# Altium schematic symbol library Schematic-Lib-ABahlmann-MISC.SchLib: 41 symbols
Pins are listed as number, name and electrical type; pins without a type are passive.

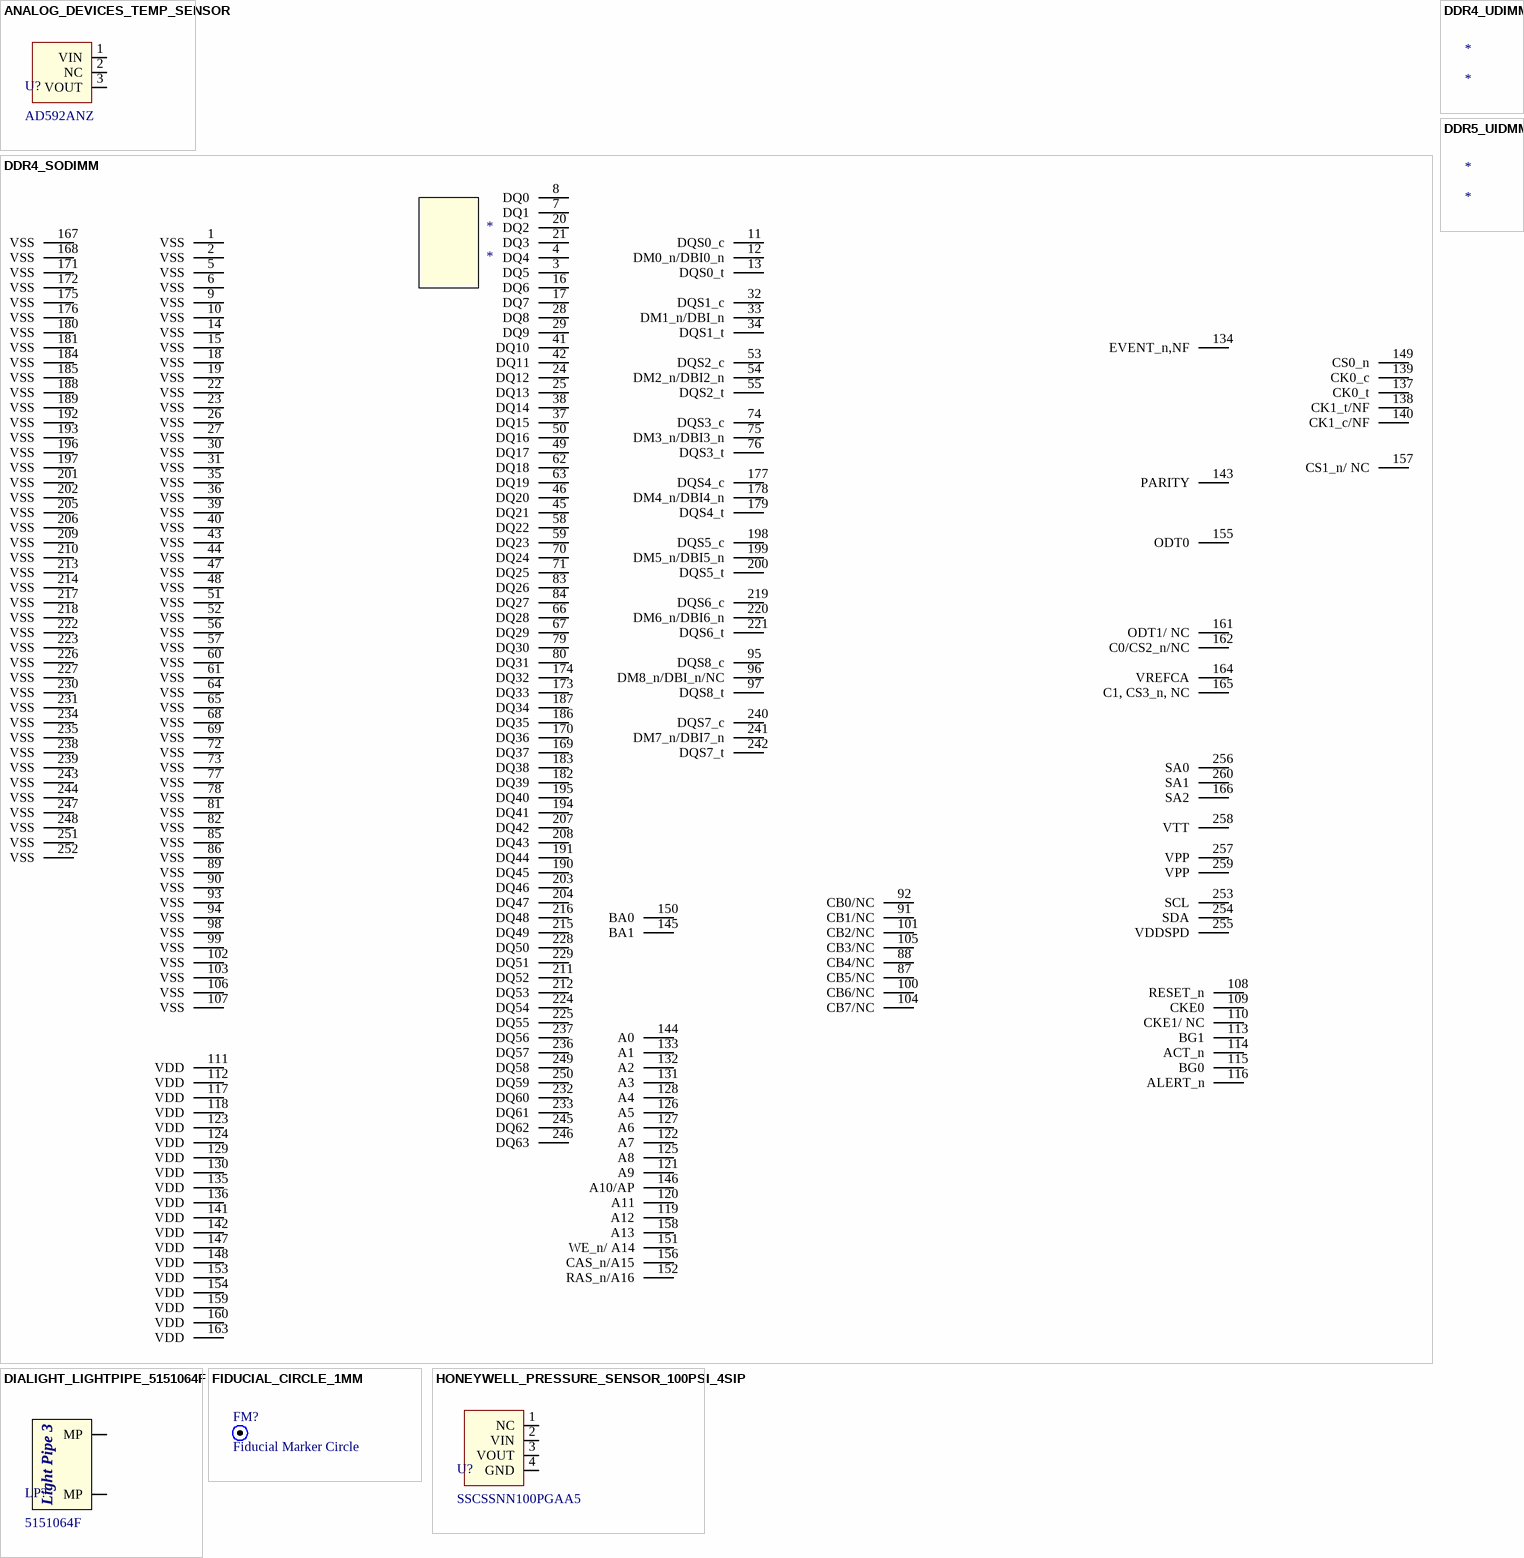
[diagram p0: symbols ANALOG_DEVICES_TEMP_SENSOR to HONEYWELL_PRESSURE_SENSOR_100PSI_4SIP]

## ANALOG_DEVICES_TEMP_SENSOR
designator U?, comment AD592ANZ  (no BOM)
Temperature Sensor Analog, Local -25°C ~ 105°C TO-92-3 (NO BOM)
footprint AD592ANZ
pins: 1 VIN, 2 NC, 3 VOUT

## DDR4_SODIMM
designator *  (no BOM)
ComponentLink1Description: DDR4_SODIMM; ComponentLink1URL: https://www.mouser.ca/new/apacer/apacer-ddr4-3200-industrial-memory/; ComponentLink2Description: New link; ComponentLink2URL: https://www.farnell.com/datasheets/3542655.pdf
footprint DDR4_SODIMM
pins: 1 VSS, 2 VSS, 3 DQ5, 4 DQ4, 5 VSS, 6 VSS, 7 DQ1, 8 DQ0, 9 VSS, 10 VSS, 11 DQS0_c, 12 DM0_n/DBI0_n, 13 DQS0_t, 14 VSS, 15 VSS, 16 DQ6, 17 DQ7, 18 VSS, 19 VSS, 20 DQ2, 21 DQ3, 22 VSS, 23 VSS, 24 DQ12, 25 DQ13, 26 VSS, 27 VSS, 28 DQ8, 29 DQ9, 30 VSS, 31 VSS, 32 DQS1_c, 33 DM1_n/DBI_n, 34 DQS1_t, 35 VSS, 36 VSS, 37 DQ15, 38 DQ14, 39 VSS, 40 VSS, 41 DQ10, 42 DQ11, 43 VSS, 44 VSS, 45 DQ21, 46 DQ20, 47 VSS, 48 VSS, 49 DQ17, 50 DQ16, 51 VSS, 52 VSS, 53 DQS2_c, 54 DM2_n/DBI2_n, 55 DQS2_t, 56 VSS, 57 VSS, 58 DQ22, 59 DQ23, 60 VSS, 61 VSS, 62 DQ18, 63 DQ19, 64 VSS, 65 VSS, 66 DQ28, 67 DQ29, 68 VSS, 69 VSS, 70 DQ24, 71 DQ25, 72 VSS, 73 VSS, 74 DQS3_c, 75 DM3_n/DBI3_n, 76 DQS3_t, 77 VSS, 78 VSS, 79 DQ30, 80 DQ31, 81 VSS, 82 VSS, 83 DQ26, 84 DQ27, 85 VSS, 86 VSS, 87 CB5/NC, 88 CB4/NC, 89 VSS, 90 VSS, 91 CB1/NC, 92 CB0/NC, 93 VSS, 94 VSS, 95 DQS8_c, 96 DM8_n/DBI_n/NC, 97 DQS8_t, 98 VSS, 99 VSS, 100 CB6/NC, 101 CB2/NC, 102 VSS, 103 VSS, 104 CB7/NC, 105 CB3/NC, 106 VSS, 107 VSS, 108 RESET_n, 109 CKE0, 110 CKE1/ NC, 111 VDD, 112 VDD, 113 BG1, 114 ACT_n, 115 BG0, 116 ALERT_n, 117 VDD, 118 VDD, 119 A12, 120 A11, 121 A9, 122 A7, 123 VDD, 124 VDD, 125 A8, 126 A5, 127 A6, 128 A4, 129 VDD, 130 VDD, 131 A3, 132 A2, 133 A1, 134 EVENT_n,NF, 135 VDD, 136 VDD, 137 CK0_t, 138 CK1_t/NF, 139 CK0_c, 140 CK1_c/NF, 141 VDD, 142 VDD, 143 PARITY, 144 A0, 145 BA1, 146 A10/AP, 147 VDD, 148 VDD, 149 CS0_n, 150 BA0, 151 WE_n/ A14, 152 RAS_n/A16, 153 VDD, 154 VDD, 155 ODT0, 156 CAS_n/A15, 157 CS1_n/ NC, 158 A13, 159 VDD, 160 VDD, 161 ODT1/ NC, 162 C0/CS2_n/NC, 163 VDD, 164 VREFCA, 165 C1, CS3_n, NC, 166 SA2, 167 VSS, 168 VSS, 169 DQ37, 170 DQ36, 171 VSS, 172 VSS, 173 DQ33, 174 DQ32, 175 VSS, 176 VSS, 177 DQS4_c, 178 DM4_n/DBI4_n, 179 DQS4_t, 180 VSS, 181 VSS, 182 DQ39, 183 DQ38, 184 VSS, 185 VSS, 186 DQ35, 187 DQ34, 188 VSS, 189 VSS, 190 DQ45, 191 DQ44, 192 VSS, 193 VSS, 194 DQ41, 195 DQ40, 196 VSS, 197 VSS, 198 DQS5_c, 199 DM5_n/DBI5_n, 200 DQS5_t, 201 VSS, 202 VSS, 203 DQ46, 204 DQ47, 205 VSS, 206 VSS, 207 DQ42, 208 DQ43, 209 VSS, 210 VSS, 211 DQ52, 212 DQ53, 213 VSS, 214 VSS, 215 DQ49, 216 DQ48, 217 VSS, 218 VSS, 219 DQS6_c, 220 DM6_n/DBI6_n, 221 DQS6_t, 222 VSS, 223 VSS, 224 DQ54, 225 DQ55, 226 VSS, 227 VSS, 228 DQ50, 229 DQ51, 230 VSS, 231 VSS, 232 DQ60, 233 DQ61, 234 VSS, 235 VSS, 236 DQ57, 237 DQ56, 238 VSS, 239 VSS, 240 DQS7_c, 241 DM7_n/DBI7_n, 242 DQS7_t, 243 VSS, 244 VSS, 245 DQ62, 246 DQ63, 247 VSS, 248 VSS, 249 DQ58, 250 DQ59, 251 VSS, 252 VSS, 253 SCL, 254 SDA, 255 VDDSPD, 256 SA0, 257 VPP, 258 VTT, 259 VPP, 260 SA1

## DDR4_UDIMM
designator *  (no BOM)
ComponentLink1Description: DDR4_UDIMM; ComponentLink1URL: https://www.mouser.com/datasheet/2/671/mict_s_a0003077621_1-2290867.pdf
footprint DDR4_UDIMM

## DDR5_UIDMM
designator *  (no BOM)
ComponentLink1Description: DDR5_UIDMM; ComponentLink1URL: https://www.positivoempresas.com.br/wp-content/uploads/2024/11/3.-MEMORIA-DDR5.pdf; ComponentLink2Description: Kingston Mouser; ComponentLink2URL: https://www.mouser.ca/new/kingston/kingston-fury-beast-ddr5-memory-modules/
footprint DDR5_UDIMM

## DIALIGHT_LIGHTPIPE_5151064F
designator LP?, comment 5151064F  (no BOM)
Light Pipe 3 High Clear Rigid Board Mount, Press Fit, Right Angle; ComponentLink1Description: Digikey; ComponentLink1URL: https://www.digikey.ca/en/products/detail/dialight/5151064F/1769783; ComponentLink2Description: Datasheet; ComponentLink2URL: https://s3-us-west-2.amazonaws.com/catsy.557/C17574.pdf
footprint DIALIGHT_LIGHTPIPE_5151064F (Light Pipe 3 High Clear Rigid Board Mount, Press Fit, Right Angle)
pins: MP (power), MP (power)
text: Light Pipe 3

## FIDUCIAL_CIRCLE_1MM
designator FM?, comment Fiducial Marker Circle  (no BOM)
Fiducial Marker Circle 1mm NOBOM; ComponentLink1Description: Fiducical Link; ComponentLink1URL: https://www.solutionsmfg.com/images/pdf/fiducial.pdf
footprint FIDUCIAL_CIRCLE_1MMX2MM
footprint FIDUCIAL_CIRCLE_1MMX3MM

## HONEYWELL_PRESSURE_SENSOR_100PSI_4SIP
designator U?, comment SSCSSNN100PGAA5  (no BOM)
Pressure Sensor 100PSI (689.48kPa) Vented Gauge 0.5 V ~ 4.5 V 4-SIP Module (NO BOM); ComponentLink1Description: Digikey; ComponentLink1URL: https://www.digikey.ca/en/products/detail/honeywell-sensing-and-productivity-solutions/SSCSSNN100PGAA5/2270214; ComponentLink2Description: Datasheet; ComponentLink2URL: https://mm.digikey.com/Volume0/opasdata/d220001/medias/docus/2157/ssc_series_DS.pdf
footprint SSCSSNN100PGAA5
pins: 1 NC, 2 VIN, 3 VOUT, 4 GND

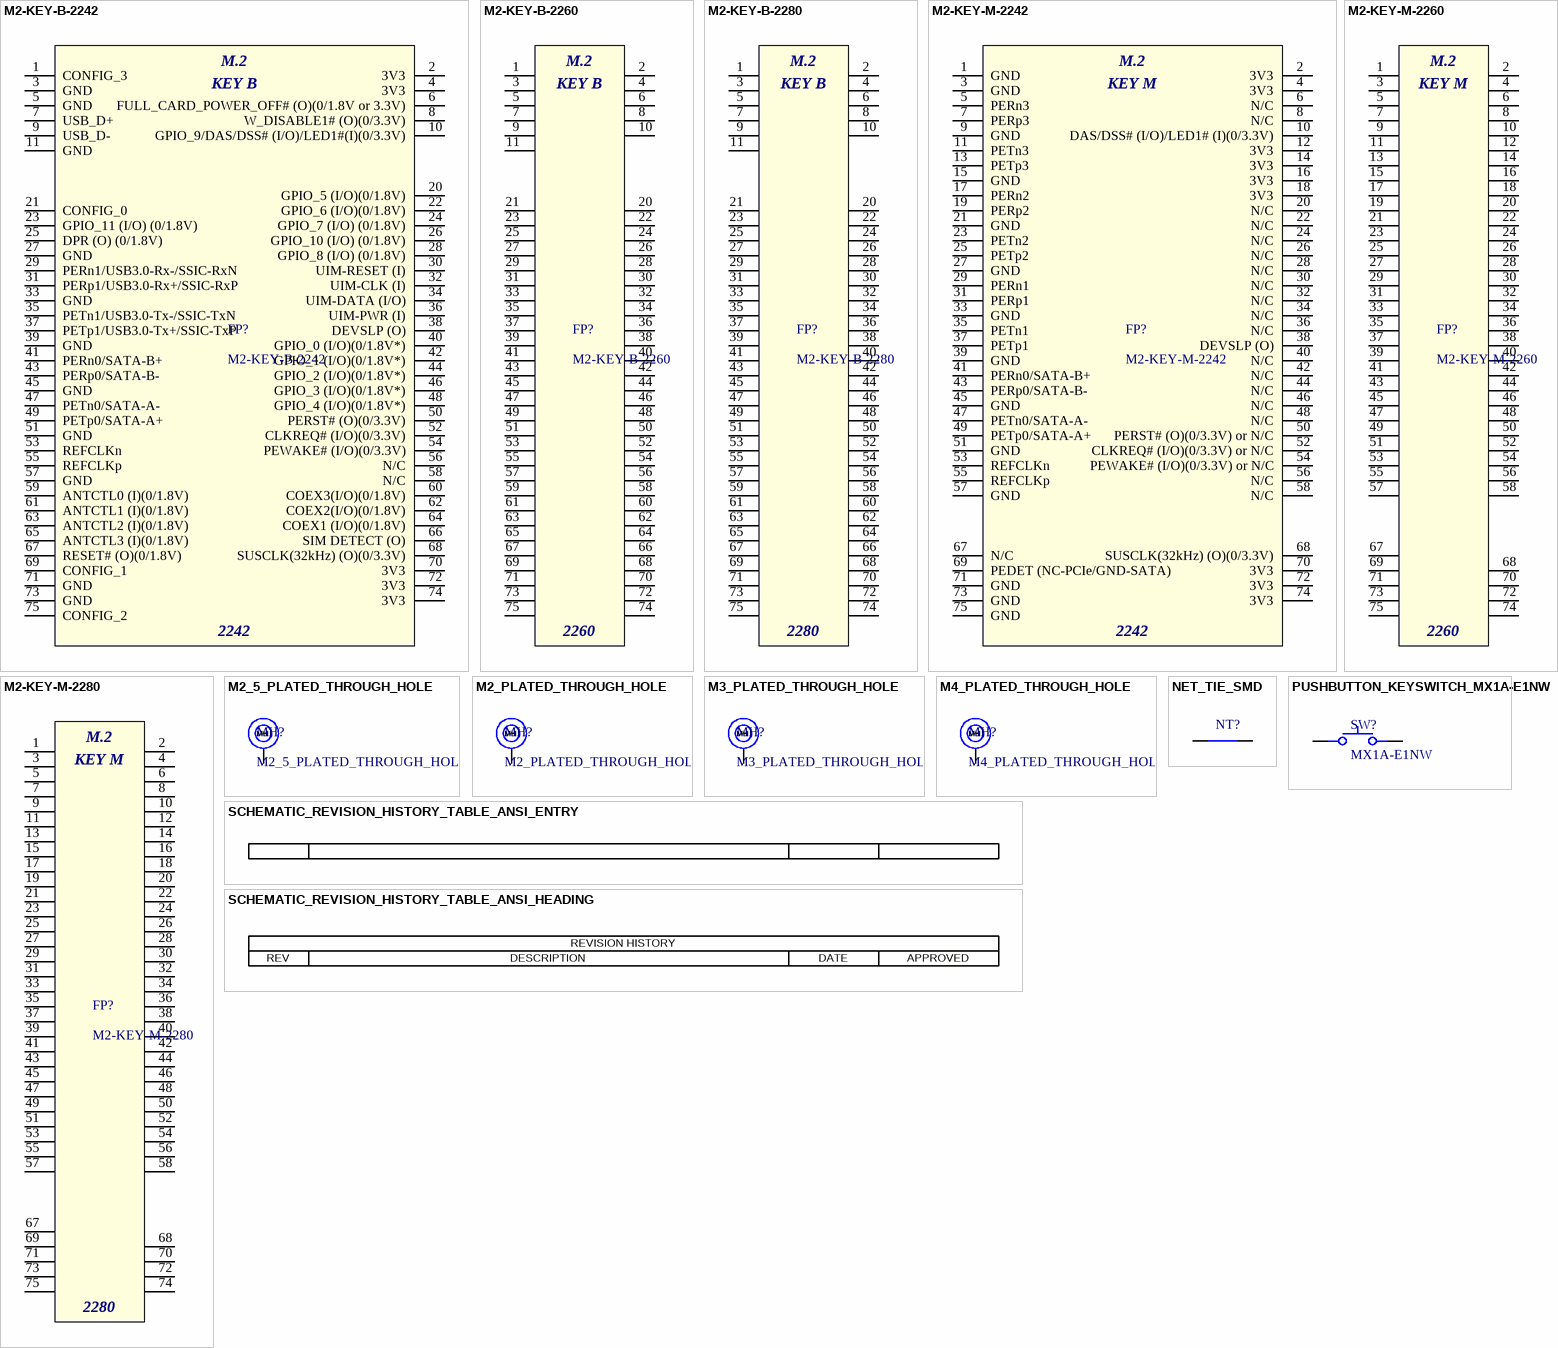
[diagram p1: symbols M2-KEY-B-2242 to SCHEMATIC_REVISION_HISTORY_TABLE_ANSI_HEADING]

## M2-KEY-B-2242
designator FP?  (no BOM)
M.2 Key B 22mm x 42mm Footprint Outline; ComponentLink1Description: M.2 Link; ComponentLink1URL: https://picture.iczhiku.com/resource/eetop/sHksKPigIJigRbbx.pdf; ComponentLink2Description: M.2 Link 2; ComponentLink2URL: https://www.congatec.com/fileadmin/user_upload/Documents/Application_Notes/AN43_M.2_Pinout_Descriptions_and_Reference_Designs.pdf; ComponentLink3Description: M.2 Link 3; ComponentLink3URL: https://web.archive.org/web/20210118201723/http://read.pudn.com/downloads794/doc/project/3133918/PCIe_M.2_Electromechanical_Spec_Rev1.0_Final_11012013_RS_Clean.pdf#page=23
footprint M2-KEY-B-2242 (M.2 Key B 22mm x 42mm Footprint Outline)
pins: 1 CONFIG_3 (power), 2 3V3 (power), 3 GND (power), 4 3V3 (power), 5 GND (power), 6 FULL_CARD_POWER_OFF# (O)(0/1.8V or 3.3V) (power), 7 USB_D+ (power), 8 W_DISABLE1# (O)(0/3.3V) (power), 9 USB_D- (power), 10 GPIO_9/DAS/DSS# (I/O)/LED1#(I)(0/3.3V) (power), 11 GND (power), 20 GPIO_5 (I/O)(0/1.8V) (power), 21 CONFIG_0 (power), 22 GPIO_6 (I/O)(0/1.8V) (power), 23 GPIO_11 (I/O) (0/1.8V) (power), 24 GPIO_7 (I/O) (0/1.8V) (power), 25 DPR (O) (0/1.8V) (power), 26 GPIO_10 (I/O) (0/1.8V) (power), 27 GND (power), 28 GPIO_8 (I/O) (0/1.8V) (power), 29 PERn1/USB3.0-Rx-/SSIC-RxN (power), 30 UIM-RESET (I) (power), 31 PERp1/USB3.0-Rx+/SSIC-RxP (power), 32 UIM-CLK (I) (power), 33 GND (power), 34 UIM-DATA (I/O) (power), 35 PETn1/USB3.0-Tx-/SSIC-TxN (power), 36 UIM-PWR (I) (power), 37 PETp1/USB3.0-Tx+/SSIC-TxP (power), 38 DEVSLP (O) (power), 39 GND (power), 40 GPIO_0 (I/O)(0/1.8V*) (power), 41 PERn0/SATA-B+ (power), 42 GPIO_1 (I/O)(0/1.8V*) (power), 43 PERp0/SATA-B- (power), 44 GPIO_2 (I/O)(0/1.8V*) (power), 45 GND (power), 46 GPIO_3 (I/O)(0/1.8V*) (power), 47 PETn0/SATA-A- (power), 48 GPIO_4 (I/O)(0/1.8V*) (power), 49 PETp0/SATA-A+ (power), 50 PERST# (O)(0/3.3V) (power), 51 GND (power), 52 CLKREQ# (I/O)(0/3.3V) (power), 53 REFCLKn (power), 54 PEWAKE# (I/O)(0/3.3V) (power), 55 REFCLKp (power), 56 N/C (power), 57 GND (power), 58 N/C (power), 59 ANTCTL0 (I)(0/1.8V) (power), 60 COEX3(I/O)(0/1.8V) (power), 61 ANTCTL1 (I)(0/1.8V) (power), 62 COEX2(I/O)(0/1.8V) (power), 63 ANTCTL2 (I)(0/1.8V) (power), 64 COEX1 (I/O)(0/1.8V) (power), 65 ANTCTL3 (I)(0/1.8V) (power), 66 SIM DETECT (O) (power), 67 RESET# (O)(0/1.8V) (power), 68 SUSCLK(32kHz) (O)(0/3.3V) (power), 69 CONFIG_1 (power), 70 3V3 (power), 71 GND (power), 72 3V3 (power), 73 GND (power), 74 3V3 (power), 75 CONFIG_2 (power)
text: M.2; KEY B; 2242

## M2-KEY-B-2260
designator FP?  (no BOM)
M.2 Key B 22mm x 60mm Footprint Outline
footprint M2-KEY-B-2260 (M.2 Key B 22mm x 60mm Footprint Outline)
pins: 1 (power), 2 (power), 3 (power), 4 (power), 5 (power), 6 (power), 7 (power), 8 (power), 9 (power), 10 (power), 11 (power), 20 (power), 21 (power), 22 (power), 23 (power), 24 (power), 25 (power), 26 (power), 27 (power), 28 (power), 29 (power), 30 (power), 31 (power), 32 (power), 33 (power), 34 (power), 35 (power), 36 (power), 37 (power), 38 (power), 39 (power), 40 (power), 41 (power), 42 (power), 43 (power), 44 (power), 45 (power), 46 (power), 47 (power), 48 (power), 49 (power), 50 (power), 51 (power), 52 (power), 53 (power), 54 (power), 55 (power), 56 (power), 57 (power), 58 (power), 59 (power), 60 (power), 61 (power), 62 (power), 63 (power), 64 (power), 65 (power), 66 (power), 67 (power), 68 (power), 69 (power), 70 (power), 71 (power), 72 (power), 73 (power), 74 (power), 75 (power)
text: M.2; KEY B; 2260

## M2-KEY-B-2280
designator FP?  (no BOM)
M.2 Key B 22mm x 80mm Footprint Outline
footprint M2-KEY-B-2280 (M.2 Key B 22mm x 80mm Footprint Outline)
pins: 1 (power), 2 (power), 3 (power), 4 (power), 5 (power), 6 (power), 7 (power), 8 (power), 9 (power), 10 (power), 11 (power), 20 (power), 21 (power), 22 (power), 23 (power), 24 (power), 25 (power), 26 (power), 27 (power), 28 (power), 29 (power), 30 (power), 31 (power), 32 (power), 33 (power), 34 (power), 35 (power), 36 (power), 37 (power), 38 (power), 39 (power), 40 (power), 41 (power), 42 (power), 43 (power), 44 (power), 45 (power), 46 (power), 47 (power), 48 (power), 49 (power), 50 (power), 51 (power), 52 (power), 53 (power), 54 (power), 55 (power), 56 (power), 57 (power), 58 (power), 59 (power), 60 (power), 61 (power), 62 (power), 63 (power), 64 (power), 65 (power), 66 (power), 67 (power), 68 (power), 69 (power), 70 (power), 71 (power), 72 (power), 73 (power), 74 (power), 75 (power)
text: M.2; KEY B; 2280

## M2-KEY-M-2242
designator FP?  (no BOM)
M.2 Key M 22mm x 42mm Footprint Outline
footprint M2-KEY-M-2242 (M.2 Key M 22mm x 42mm Footprint Outline)
pins: 1 GND (power), 2 3V3 (power), 3 GND (power), 4 3V3 (power), 5 PERn3 (power), 6 N/C (power), 7 PERp3 (power), 8 N/C (power), 9 GND (power), 10 DAS/DSS# (I/O)/LED1# (I)(0/3.3V) (power), 11 PETn3 (power), 12 3V3 (power), 13 PETp3 (power), 14 3V3 (power), 15 GND (power), 16 3V3 (power), 17 PERn2 (power), 18 3V3 (power), 19 PERp2 (power), 20 N/C (power), 21 GND (power), 22 N/C (power), 23 PETn2 (power), 24 N/C (power), 25 PETp2 (power), 26 N/C (power), 27 GND (power), 28 N/C (power), 29 PERn1 (power), 30 N/C (power), 31 PERp1 (power), 32 N/C (power), 33 GND (power), 34 N/C (power), 35 PETn1 (power), 36 N/C (power), 37 PETp1 (power), 38 DEVSLP (O) (power), 39 GND (power), 40 N/C (power), 41 PERn0/SATA-B+ (power), 42 N/C (power), 43 PERp0/SATA-B- (power), 44 N/C (power), 45 GND (power), 46 N/C (power), 47 PETn0/SATA-A- (power), 48 N/C (power), 49 PETp0/SATA-A+ (power), 50 PERST# (O)(0/3.3V) or N/C (power), 51 GND (power), 52 CLKREQ# (I/O)(0/3.3V) or N/C (power), 53 REFCLKn (power), 54 PEWAKE# (I/O)(0/3.3V) or N/C (power), 55 REFCLKp (power), 56 N/C (power), 57 GND (power), 58 N/C (power), 67 N/C (power), 68 SUSCLK(32kHz) (O)(0/3.3V) (power), 69 PEDET (NC-PCIe/GND-SATA) (power), 70 3V3 (power), 71 GND (power), 72 3V3 (power), 73 GND (power), 74 3V3 (power), 75 GND (power)
text: M.2; KEY M; 2242

## M2-KEY-M-2260
designator FP?  (no BOM)
M.2 Key M 22mm x 60mm Footprint Outline
footprint M2-KEY-M-2260 (M.2 Key M 22mm x 60mm Footprint Outline)
pins: 1 (power), 2 (power), 3 (power), 4 (power), 5 (power), 6 (power), 7 (power), 8 (power), 9 (power), 10 (power), 11 (power), 12 (power), 13 (power), 14 (power), 15 (power), 16 (power), 17 (power), 18 (power), 19 (power), 20 (power), 21 (power), 22 (power), 23 (power), 24 (power), 25 (power), 26 (power), 27 (power), 28 (power), 29 (power), 30 (power), 31 (power), 32 (power), 33 (power), 34 (power), 35 (power), 36 (power), 37 (power), 38 (power), 39 (power), 40 (power), 41 (power), 42 (power), 43 (power), 44 (power), 45 (power), 46 (power), 47 (power), 48 (power), 49 (power), 50 (power), 51 (power), 52 (power), 53 (power), 54 (power), 55 (power), 56 (power), 57 (power), 58 (power), 67 (power), 68 (power), 69 (power), 70 (power), 71 (power), 72 (power), 73 (power), 74 (power), 75 (power)
text: M.2; KEY M; 2260

## M2-KEY-M-2280
designator FP?  (no BOM)
M.2 Key M 22mm x 80mm Footprint Outline
footprint M2-KEY-M-2280 (M.2 Key M 22mm x 80mm Footprint Outline)
pins: 1 (power), 2 (power), 3 (power), 4 (power), 5 (power), 6 (power), 7 (power), 8 (power), 9 (power), 10 (power), 11 (power), 12 (power), 13 (power), 14 (power), 15 (power), 16 (power), 17 (power), 18 (power), 19 (power), 20 (power), 21 (power), 22 (power), 23 (power), 24 (power), 25 (power), 26 (power), 27 (power), 28 (power), 29 (power), 30 (power), 31 (power), 32 (power), 33 (power), 34 (power), 35 (power), 36 (power), 37 (power), 38 (power), 39 (power), 40 (power), 41 (power), 42 (power), 43 (power), 44 (power), 45 (power), 46 (power), 47 (power), 48 (power), 49 (power), 50 (power), 51 (power), 52 (power), 53 (power), 54 (power), 55 (power), 56 (power), 57 (power), 58 (power), 67 (power), 68 (power), 69 (power), 70 (power), 71 (power), 72 (power), 73 (power), 74 (power), 75 (power)
text: M.2; KEY M; 2280

## M2_5_PLATED_THROUGH_HOLE
designator MH?  (no BOM)
Close fit: 2.7 mm, Normal fit: 2.9 mm , Loose fit: 3.1 mm (NO BOM)
pins: MH

## M2_PLATED_THROUGH_HOLE
designator MH?  (no BOM)
Close fit: 2.2 mm, Normal fit: 2.4 mm , Loose fit: 2.6 mm (NO BOM)
pins: MH

## M3_PLATED_THROUGH_HOLE
designator MH?  (no BOM)
Close fit: 3.2 mm, Normal fit: 3.4 mm , Loose fit: 3.6 mm (NO BOM)
footprint M3_NORMAL_FIT_PLATED_THROUGH_HOLE
footprint M3_SEMS_NORMAL_FIT_PLATED_THROUGH_HOLE
footprint M3_SEMS_RELIEF_NORMAL_FIT_PLATED_THROUGH_HOLE
pins: MH

## M4_PLATED_THROUGH_HOLE
designator MH?  (no BOM)
Close fit: 4.3 mm, Normal fit: 4.5 mm , Loose fit: 4.8 mm (NO BOM)
footprint M4_NORMAL_FIT_PLATED_THROUGH_HOLE
footprint M4_SEMS_NORMAL_FIT_PLATED_THROUGH_HOLE
footprint M4_SEMS_RELIEF_NORMAL_FIT_PLATED_THROUGH_HOLE
pins: MH

## NET_TIE_SMD
designator NT?, comment NT  (value not drawn)  (net tie, no BOM)
Net Tie SMD (NO BOM)
footprint NETTIE_SMD_0MM1
footprint NETTIE_SMD_1MM0
footprint NETTIE_SMD_0MM25
pins: 1, 2

## PUSHBUTTON_KEYSWITCH_MX1A-E1NW
designator SW?, comment MX1A-E1NW
Pushbutton Switch SPST-NO Keyswitch Through Hole; ComponentLink1Description: Digikey; ComponentLink1URL: https://www.digikey.ca/en/products/detail/cherry-americas-llc/MX1A-E1NW/20180; ComponentLink2Description: Datasheet; ComponentLink2URL: https://cdn.sparkfun.com/datasheets/Components/Switches/MX%20Series.pdf
footprint PUSHBUTTON_KEYSWITCH_MX1A-E1NW (Pushbutton Switch SPST-NO Keyswitch Through Hole)
pins: 1, 2

## SCHEMATIC_REVISION_HISTORY_TABLE_ANSI_ENTRY
designator RHT  (value not drawn)  (graphical)
ANSI Schematic Title Block.

## SCHEMATIC_REVISION_HISTORY_TABLE_ANSI_HEADING
designator RHT  (value not drawn)  (graphical)
ANSI Schematic Title Block.
text: REVISION HISTORY; REV; DESCRIPTION; DATE; APPROVED

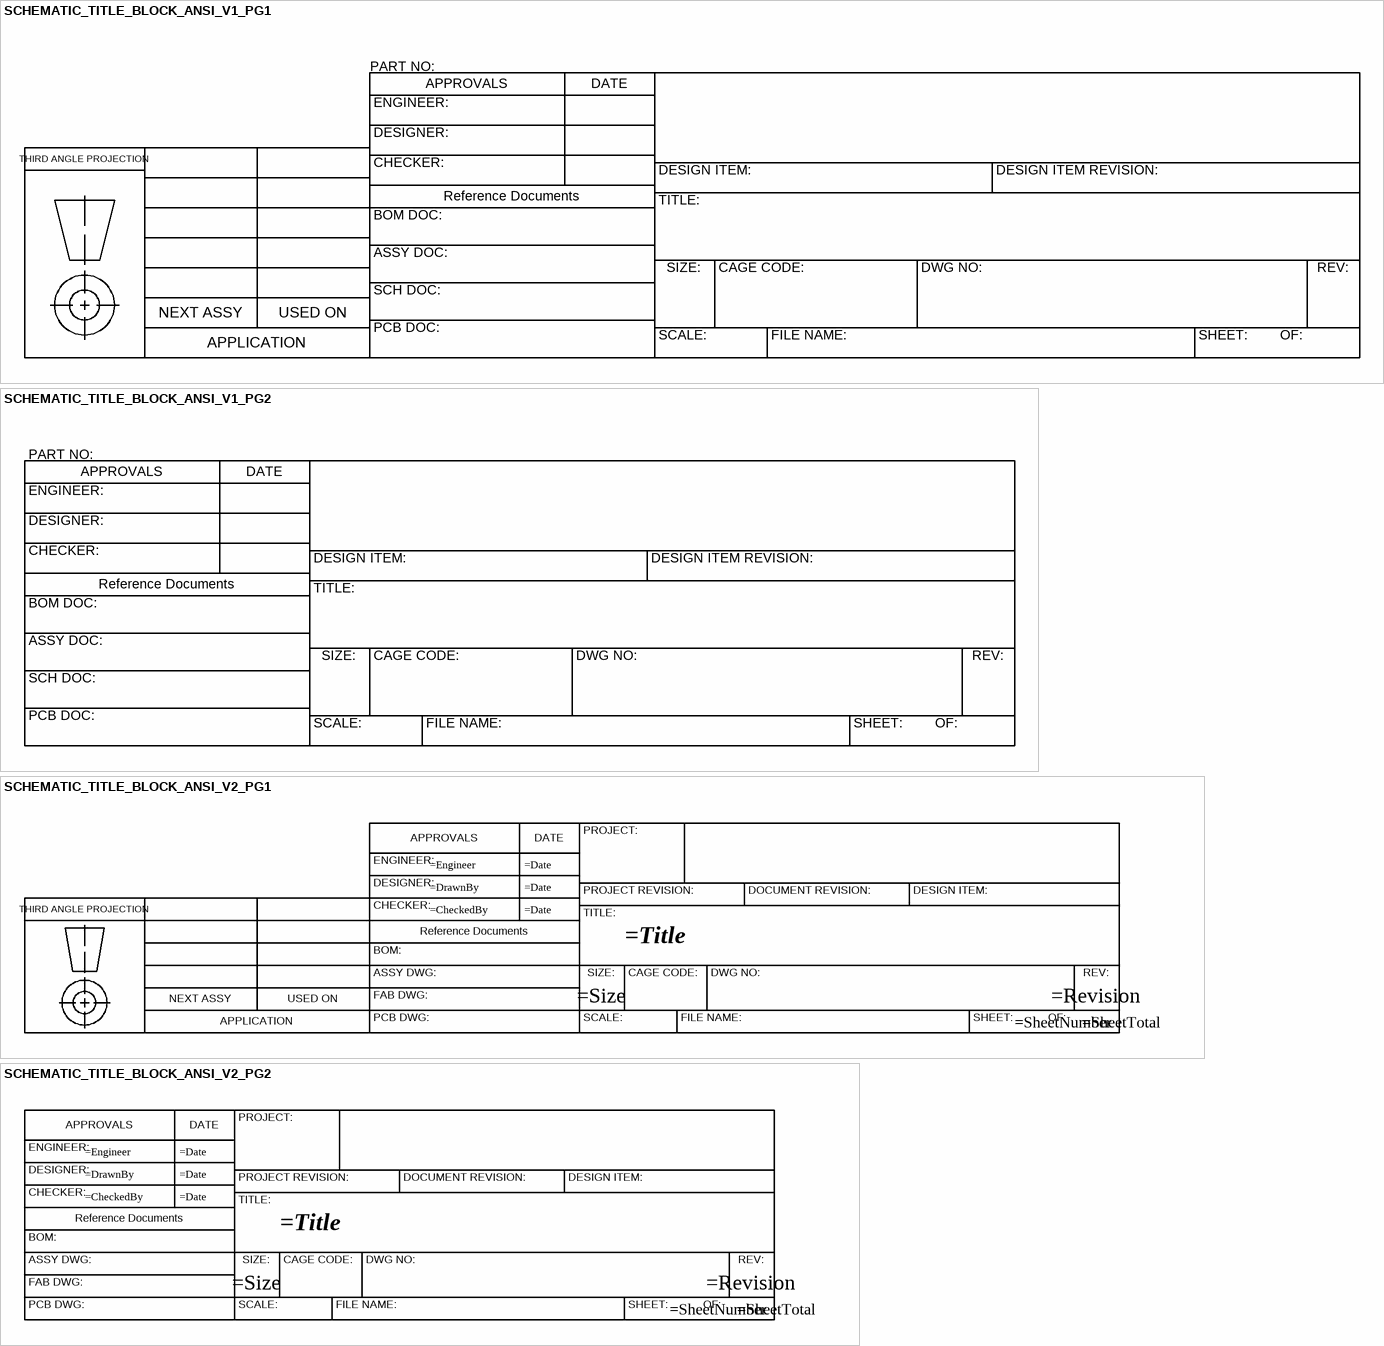
[diagram p2: symbols SCHEMATIC_TITLE_BLOCK_ANSI_V1_PG1 to SCHEMATIC_TITLE_BLOCK_ANSI_V2_PG2]

## SCHEMATIC_TITLE_BLOCK_ANSI_V1_PG1
designator TB, comment SCHEMATIC_TITLE_BLOCK_ANSI  (value not drawn)  (graphical)
ANSI Schematic Title Block.
text: PART NO:; APPROVALS; DATE; ENGINEER:; DESIGNER:; THIRD ANGLE PROJECTION; CHECKER:; DESIGN ITEM:; DESIGN ITEM REVISION:; Reference Documents; TITLE:; BOM DOC:; ASSY DOC:; SIZE:; CAGE CODE:; DWG NO:; REV:; SCH DOC:; NEXT ASSY; USED ON; PCB DOC:; SCALE:; FILE NAME:; SHEET:; OF:; APPLICATION

## SCHEMATIC_TITLE_BLOCK_ANSI_V1_PG2
designator TB, comment SCHEMATIC_TITLE_BLOCK_ANSI  (value not drawn)  (graphical)
ANSI Schematic Title Block.
text: PART NO:; APPROVALS; DATE; ENGINEER:; DESIGNER:; CHECKER:; DESIGN ITEM:; DESIGN ITEM REVISION:; Reference Documents; TITLE:; BOM DOC:; ASSY DOC:; SIZE:; CAGE CODE:; DWG NO:; REV:; SCH DOC:; PCB DOC:; SCALE:; FILE NAME:; SHEET:; OF:

## SCHEMATIC_TITLE_BLOCK_ANSI_V2_PG1
designator TB, comment SCHEMATIC_TITLE_BLOCK_ANSI  (value not drawn)  (graphical)
ANSI Schematic Title Block.
text: PROJECT:; APPROVALS; DATE; ENGINEER:; DESIGNER:; PROJECT REVISION:; DOCUMENT REVISION:; DESIGN ITEM:; CHECKER:; THIRD ANGLE PROJECTION; TITLE:; Reference Documents; BOM:; ASSY DWG:; SIZE:; CAGE CODE:; DWG NO:; REV:; FAB DWG:; NEXT ASSY; USED ON; APPLICATION; PCB DWG:; SCALE:; FILE NAME:; SHEET:; OF:

## SCHEMATIC_TITLE_BLOCK_ANSI_V2_PG2
designator TB, comment SCHEMATIC_TITLE_BLOCK_ANSI  (value not drawn)  (graphical)
ANSI Schematic Title Block.
text: PROJECT:; APPROVALS; DATE; ENGINEER:; DESIGNER:; PROJECT REVISION:; DOCUMENT REVISION:; DESIGN ITEM:; CHECKER:; TITLE:; Reference Documents; BOM:; ASSY DWG:; SIZE:; CAGE CODE:; DWG NO:; REV:; FAB DWG:; PCB DWG:; SCALE:; FILE NAME:; SHEET:; OF:

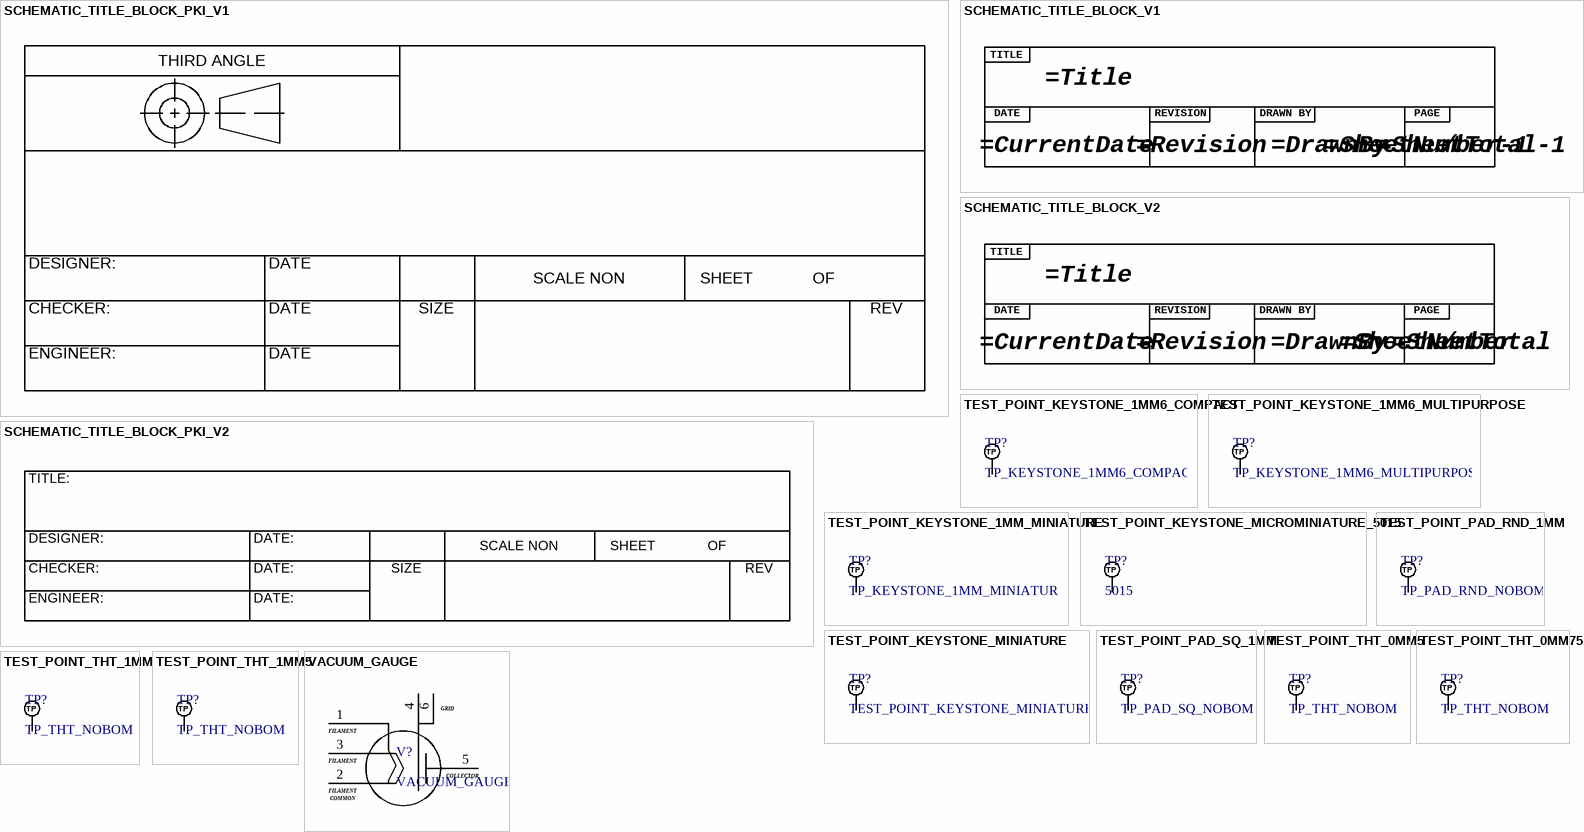
[diagram p3: symbols SCHEMATIC_TITLE_BLOCK_PKI_V1 to VACUUM_GAUGE]

## SCHEMATIC_TITLE_BLOCK_PKI_V1
designator TB, comment SCHEMATIC_TITLE_BLOCK_PKI  (value not drawn)  (graphical)
PKI Schematic Title Block.
text: THIRD ANGLE; DESIGNER:; DATE; SCALE NON; SHEET; OF; CHECKER:; SIZE; REV; ENGINEER:

## SCHEMATIC_TITLE_BLOCK_PKI_V2
designator TB, comment SCHEMATIC_TITLE_BLOCK_PKI  (value not drawn)  (graphical)
PKI Schematic Title Block.
text: TITLE:; DESIGNER:; DATE:; SCALE NON; SHEET; OF; CHECKER:; SIZE; REV; ENGINEER:

## SCHEMATIC_TITLE_BLOCK_V1
designator TB, comment SCHEMATIC_TITLE_BLOCK  (value not drawn)  (graphical)
Default Schematic Title Block. Starting Index 0.
text: TITLE; DATE; REVISION; DRAWN BY; PAGE; /

## SCHEMATIC_TITLE_BLOCK_V2
designator TB  (value not drawn)  (graphical)
Default Schematic Title Block. Starting Index 1.
text: TITLE; DATE; REVISION; DRAWN BY; PAGE; /

## TEST_POINT_KEYSTONE_1MM6_COMPACT
designator TP?, comment TP_KEYSTONE_1MM6_COMPACT
PC Test Point, Compact Phosphor Bronze Silver Plating 1.6mm Through Hole Mounting Type; ComponentLink1Description: Digikey; ComponentLink1URL: https://www.digikey.ca/en/products/detail/keystone-electronics/5005/255329; ComponentLink2Description: Datasheet; ComponentLink2URL: https://www.keyelco.com/userAssets/file/M65p56.pdf
footprint TEST_POINT_THT_1MM6_KEYSTONE_COMPACT_5005_RED (PC Test Point, Miniature Phosphor Bronze Silver Plating Through Hole Mounting Type)
footprint TEST_POINT_THT_1MM6_KEYSTONE_COMPACT_5006_BLACK (PC Test Point, Compact Phosphor Bronze Silver Plating Through Hole Mounting Type)
footprint TEST_POINT_THT_1MM6_KEYSTONE_COMPACT_5007_WHITE (PC Test Point, Compact Phosphor Bronze Silver Plating Through Hole Mounting Type)
footprint TEST_POINT_THT_1MM6_KEYSTONE_COMPACT_5008_ORGANGE (PC Test Point, Compact Phosphor Bronze Silver Plating Through Hole Mounting Type)
footprint TEST_POINT_THT_1MM6_KEYSTONE_COMPACT_5009_YELLOW (PC Test Point, Compact Phosphor Bronze Silver Plating Through Hole Mounting Type)
footprint TEST_POINT_THT_1MM6_KEYSTONE_COMPACT_5120_BROWN (PC Test Point, Compact Phosphor Bronze Silver Plating Through Hole Mounting Type)
footprint TEST_POINT_THT_1MM6_KEYSTONE_COMPACT_5121_GREEN (PC Test Point, Compact Phosphor Bronze Silver Plating Through Hole Mounting Type)
footprint TEST_POINT_THT_1MM6_KEYSTONE_COMPACT_5122_BLUE (PC Test Point, Compact Phosphor Bronze Silver Plating Through Hole Mounting Type)
footprint TEST_POINT_THT_1MM6_KEYSTONE_COMPACT_5123_GREY (PC Test Point, Compact Phosphor Bronze Silver Plating Through Hole Mounting Type)
footprint TEST_POINT_THT_1MM6_KEYSTONE_COMPACT_5124_PURPLE (PC Test Point, Compact Phosphor Bronze Silver Plating Through Hole Mounting Type)
pins: 1 TP

## TEST_POINT_KEYSTONE_1MM6_MULTIPURPOSE
designator TP?, comment TP_KEYSTONE_1MM6_MULTIPURPOSE
PC Test Point, Multipurpose Phosphor Bronze Silver Plating 1.6mm Through Hole Mounting Type; ComponentLink1Description: Digikey; ComponentLink1URL: https://www.digikey.ca/en/products/detail/keystone-electronics/5010/255332; ComponentLink2Description: Datasheet; ComponentLink2URL: https://www.keyelco.com/userAssets/file/M65p56.pdf
footprint TEST_POINT_THT_1MM6_KEYSTONE_MULTIPURPOSE_5010_RED (PC Test Point, Multipurpose Phosphor Bronze Silver Plating Through Hole Mounting Type)
footprint TEST_POINT_THT_1MM6_KEYSTONE_MULTIPURPOSE_5011_BLACK (PC Test Point, Multipurpose Phosphor Bronze Silver Plating Through Hole Mounting Type)
footprint TEST_POINT_THT_1MM6_KEYSTONE_MULTIPURPOSE_5012_WHITE (PC Test Point, Multipurpose Phosphor Bronze Silver Plating Through Hole Mounting Type)
footprint TEST_POINT_THT_1MM6_KEYSTONE_MULTIPURPOSE_5013_ORANGE (PC Test Point, Multipurpose Phosphor Bronze Silver Plating Through Hole Mounting Type)
footprint TEST_POINT_THT_1MM6_KEYSTONE_MULTIPURPOSE_5014_YELLOW (PC Test Point, Multipurpose Phosphor Bronze Silver Plating Through Hole Mounting Type)
footprint TEST_POINT_THT_1MM6_KEYSTONE_MULTIPURPOSE_5125_BROWN (PC Test Point, Multipurpose Phosphor Bronze Silver Plating Through Hole Mounting Type)
footprint TEST_POINT_THT_1MM6_KEYSTONE_MULTIPURPOSE_5126_GREEN (PC Test Point, Multipurpose Phosphor Bronze Silver Plating Through Hole Mounting Type)
footprint TEST_POINT_THT_1MM6_KEYSTONE_MULTIPURPOSE_5127_BLUE (PC Test Point, Multipurpose Phosphor Bronze Silver Plating Through Hole Mounting Type)
footprint TEST_POINT_THT_1MM6_KEYSTONE_MULTIPURPOSE_5128_GREY (PC Test Point, Multipurpose Phosphor Bronze Silver Plating Through Hole Mounting Type)
footprint TEST_POINT_THT_1MM6_KEYSTONE_MULTIPURPOSE_5129_PURPLE (PC Test Point, Multipurpose Phosphor Bronze Silver Plating Through Hole Mounting Type)
pins: 1 TP

## TEST_POINT_KEYSTONE_1MM_MINIATURE
designator TP?, comment TP_KEYSTONE_1MM_MINIATURE
PC Test Point, Miniature Phosphor Bronze Silver Plating 1.0mm Through Hole Mounting Type; ComponentLink1Description: Digikey; ComponentLink1URL: https://www.digikey.ca/en/products/detail/keystone-electronics/5000/255326; ComponentLink2Description: Datasheet; ComponentLink2URL: https://www.keyelco.com/userAssets/file/M65p56.pdf
footprint TEST_POINT_THT_1MM_KEYSTONE_MINIATURE_5000_RED (PC Test Point, Miniature Phosphor Bronze Silver Plating Through Hole Mounting Type)
footprint TEST_POINT_THT_1MM_KEYSTONE_MINIATURE_5001_BLACK (PC Test Point, Miniature Phosphor Bronze Silver Plating Through Hole Mounting Type)
footprint TEST_POINT_THT_1MM_KEYSTONE_MINIATURE_5002_WHITE (PC Test Point, Miniature Phosphor Bronze Silver Plating Through Hole Mounting Type)
footprint TEST_POINT_THT_1MM_KEYSTONE_MINIATURE_5003_ORANGE (PC Test Point, Miniature Phosphor Bronze Silver Plating Through Hole Mounting Type)
footprint TEST_POINT_THT_1MM_KEYSTONE_MINIATURE_5004_YELLOW (PC Test Point, Miniature Phosphor Bronze Silver Plating Through Hole Mounting Type)
footprint TEST_POINT_THT_1MM_KEYSTONE_MINIATURE_5115_BROWN (PC Test Point, Miniature Phosphor Bronze Silver Plating Through Hole Mounting Type)
footprint TEST_POINT_THT_1MM_KEYSTONE_MINIATURE_5116_GREEN (PC Test Point, Miniature Phosphor Bronze Silver Plating Through Hole Mounting Type)
footprint TEST_POINT_THT_1MM_KEYSTONE_MINIATURE_5117_BLUE (PC Test Point, Miniature Phosphor Bronze Silver Plating Through Hole Mounting Type)
footprint TEST_POINT_THT_1MM_KEYSTONE_MINIATURE_5118_GREY (PC Test Point, Miniature Phosphor Bronze Silver Plating Through Hole Mounting Type)
footprint TEST_POINT_THT_1MM_KEYSTONE_MINIATURE_5119_PURPLE (PC Test Point, Miniature Phosphor Bronze Silver Plating Through Hole Mounting Type)
pins: 1 TP

## TEST_POINT_KEYSTONE_MICROMINIATURE_5015
designator TP?, comment 5015
PC Test Point, Miniature Phosphor Bronze Silver Plating Surface Mount Mounting Type; ComponentLink1Description: Digikey; ComponentLink1URL: https://www.digikey.ca/en/products/detail/keystone-electronics/5015/278886; ComponentLink2Description: Datasheet; ComponentLink2URL: https://www.keyelco.com/userAssets/file/K75p61.pdf
footprint TEST_POINT_KEYSTONE_MICROMINIATURE (PC Test Point, Miniature Phosphor Bronze Silver Plating Surface Mount Mounting Type)
pins: 1 TP

## TEST_POINT_KEYSTONE_MINIATURE
designator TP?
PC Test Point, Miniature Phosphor Bronze Silver Plating Surface Mount Mounting Type; ComponentLink1Description: Digikey; ComponentLink1URL: https://www.digikey.ca/en/products/detail/keystone-electronics/5019/3907343; ComponentLink2Description: Datasheet; ComponentLink2URL: https://www.keyelco.com/userAssets/file/K75p61.pdf
footprint TEST_POINT_KEYSTONE_MINIATURE (PC Test Point, Miniature Phosphor Bronze Silver Plating Surface Mount Mounting Type)
pins: 1 TP

## TEST_POINT_PAD_RND_1MM
designator TP?, comment TP_PAD_RND_NOBOM  (no BOM)
Test Point Pad Round 1mm (NO BOM)
footprint TEST_POINT_RAD_RND_1MM
pins: 1 TP

## TEST_POINT_PAD_SQ_1MM
designator TP?, comment TP_PAD_SQ_NOBOM  (no BOM)
Test Point Pad Square 1mm (NO BOM)
footprint TEST_POINT_RAD_SQ_1MM
pins: 1 TP

## TEST_POINT_THT_0MM5
designator TP?, comment TP_THT_NOBOM  (no BOM)
Test Point Through-hole 0.5mm (NO BOM)
footprint TEST_POINT_THT_0MM5
pins: 1 TP

## TEST_POINT_THT_0MM75
designator TP?, comment TP_THT_NOBOM  (no BOM)
Test Point Through-hole 0.75mm (NO BOM)
footprint TEST_POINT_THT_0MM75
pins: 1 TP

## TEST_POINT_THT_1MM
designator TP?, comment TP_THT_NOBOM  (no BOM)
Test Point Through-hole 1mm (NO BOM)
footprint TEST_POINT_THT_1MM
pins: 1 TP

## TEST_POINT_THT_1MM5
designator TP?, comment TP_THT_NOBOM  (no BOM)
Test Point Through-hole 1.5mm (NO BOM)
footprint TEST_POINT_THT_1MM5
pins: 1 TP

## VACUUM_GAUGE
designator V?
footprint VACUUM_GAUGE
pins: 1, 2, 3, 4, 5, 6
text: GRID; FILAMENT; COLLECTOR; COMMON